# EAGLE library part AFRO_20A_ESC (library yep_30A_esc)
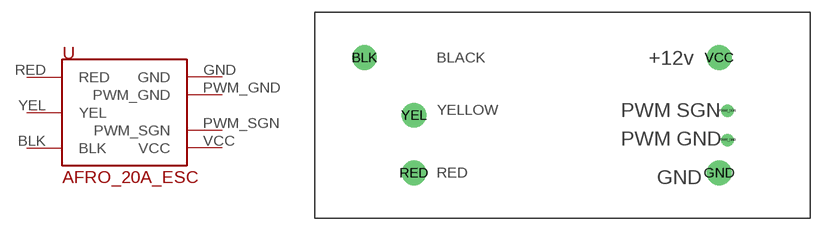
[diagram p0: symbol with the pads of AFRO_20A_ESC; footprint AFRO_20A_ESC]

Designator prefix -

## AFRO_20A_ESC  [AFRO_20A_ESC]
BLK  BLK
GND  GND
PWM_GND  PWM_GND
PWM_SGN  PWM_SGN
RED  RED
VCC  VCC
YEL  YEL

## Footprint AFRO_20A_ESC (pad centres in mm)
drill 2: BLK -24,7; GND 19,-7; RED -18,-7; VCC 19,7; YEL -18,0
drill 1: PWM_GND 20,-3; PWM_SGN 20,0.54